# Altium schematic symbol library ST25RU3993_RF_MODULE.SCHLIB: 256 symbols (part 3 of 8)
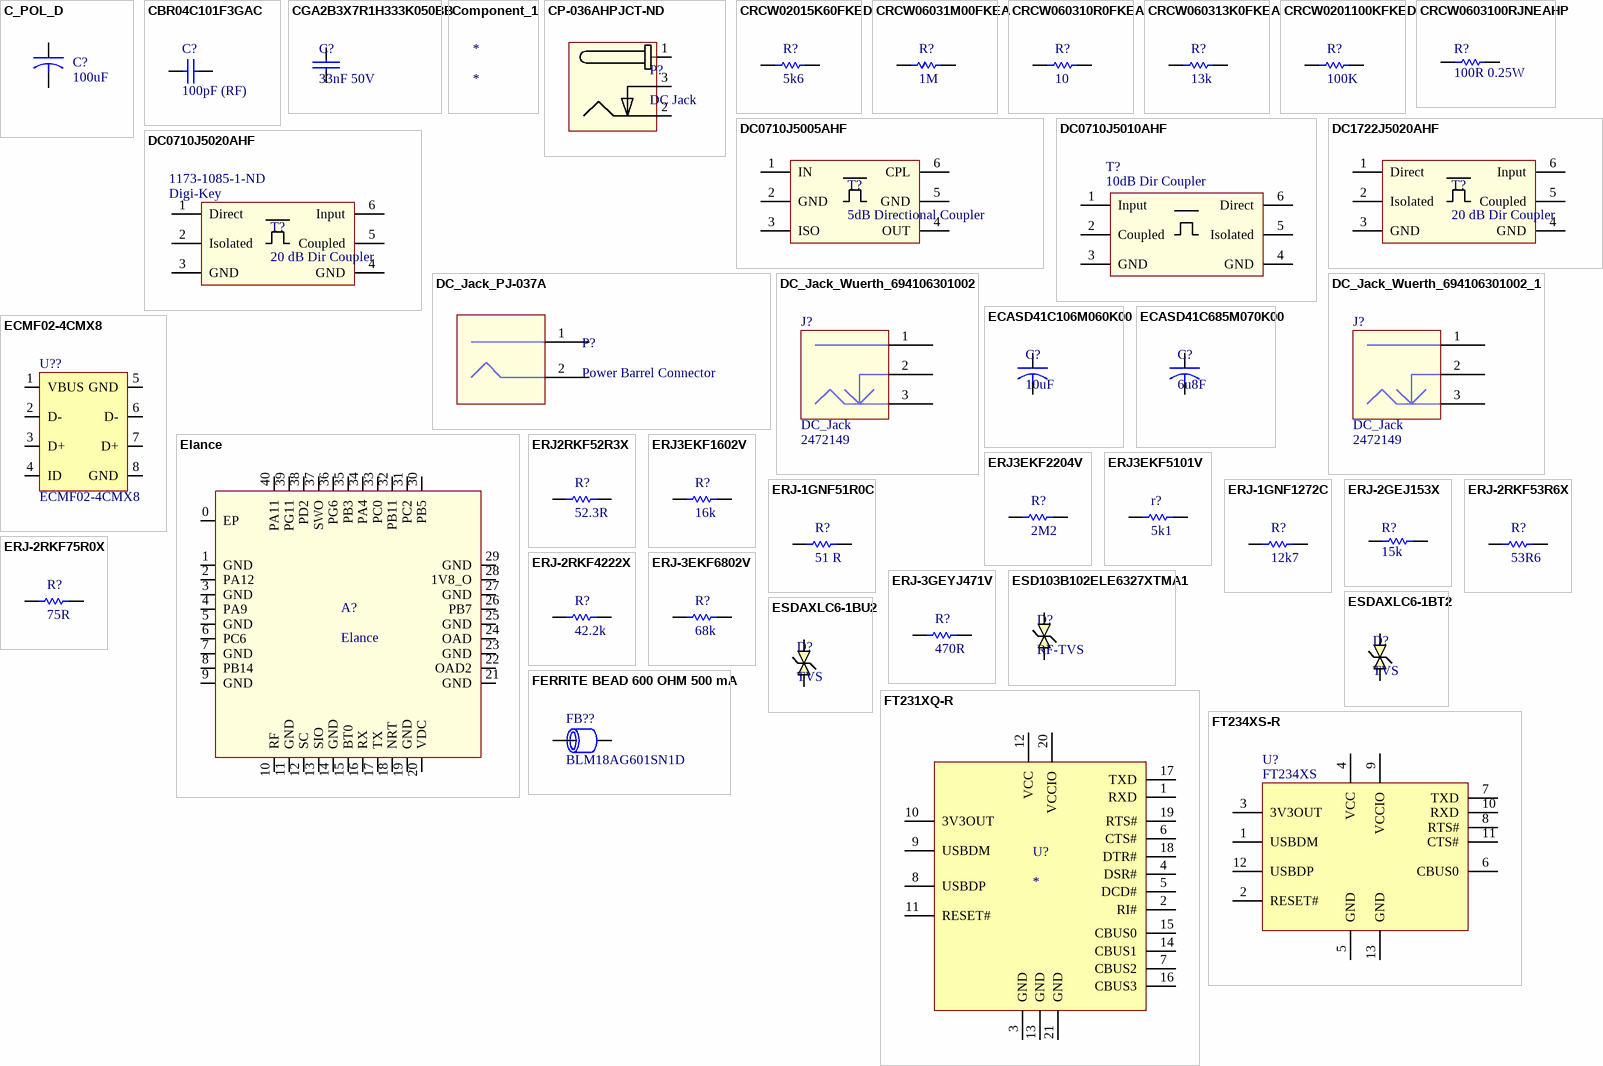
[diagram p8: symbols C_POL_D to FT234XS-R]

## ERJ-1GNF51R0C
designator R?, comment 51 R
RESISTOR, 0201, 0.05W, 1%, 51R; Manufacturer: Panasonic; Manufacturer Part Number: ERJ-1GNF51R0C; Power Rating: 50mW; Temperature Coefficient: 200ppm/°C; Voltage Rating: 25V; Supplier 1: Mouser; Supplier Part Number 1: 667-ERJ-1GNF51R0C; Stock: 5045; Pricing: 1=0.49, 10=0.045, 50=0.045, 100=0.018, 1000=0.013, 10000=0.007 (USD); Mount: Surface Mount; Case/Package: 0201; Number of Pins: 2; Weight: 6E-06oz; Case Code (Metric): 0603; Case Code (Imperial): 0201; Min Operating Temperature: -55°C; Max Operating Temperature: 125°C; Resistance: 51R; Tolerance: 1%; Packaging: Tape and Reel; Composition: Thick Film; Voltage Rating (DC): 25V; Package Quantity: 15000; Number of Terminations: 2; Max Power Dissipation: 50mW; Termination: SMD/SMT; Length: 0.6mm; Height: 0.01inch; Width: 0.012inch; Radiation Hardening: No; REACH SVHC: No SVHC; ComponentLink1URL: https://datasheet.ciiva.com/7891/aoa0000ce2-7891288.pdf; ComponentLink1Description: https://datasheet.ciiva.com/7891/aoa0000ce2-7891288.pdf; ComponentLink2URL: https://datasheet.ciiva.com/46375/1678782-46375932.pdf; ComponentLink2Description: https://datasheet.ciiva.com/46375/1678782-46375932.pdf; ComponentLink3URL: https://datasheet.ciiva.com/24130/aoa0000ce2-24130655.pdf; ComponentLink3Description: https://datasheet.ciiva.com/24130/aoa0000ce2-24130655.pdf; ComponentLink4URL: https://datasheet.ciiva.com/43467/1678782-43467023.pdf; ComponentLink4Description: https://datasheet.ciiva.com/43467/1678782-43467023.pdf
footprint R0201-RF
pins: 1, 2

## ERJ-1GNF1272C
designator R?, comment 12k7
RES SMD 12.7K OHM 1% 1/20W 0201; Manufacturer: Panasonic Electronic Components; Manufacturer Part Number: ERJ-1GNF1272C; Power (Watts): 0.05W, 1/20W; Temperature Coefficient: ±200ppm/°C; Supplier 1: Digi-Key; Supplier Part Number 1: P122706CT-ND; RoHS: RoHS Compliant; Category: Resistors; Stock: 29900; Pricing: 1=0.08, 10=0.045, 100=0.0183, 1000=0.00823, 2500=0.00714, 5000=0.0059 (EUR); Packaging: Cut Tape (CT); Part Status: Active; Tolerance: ±1%; Composition: Thick Film; Features: Automotive AEC-Q200; Operating Temperature: -55°C ~ 125°C; Package / Case: 0201 (0603 Metric); Supplier Device Package: 0201; Size / Dimension: 0.024" L x 0.012" W (0.60mm x 0.30mm); Height - Seated (Max): 0.010" (0.26mm); Failure Rate: -; ComponentLink1URL: https://industrial.panasonic.com/cdbs/www-data/pdf/RDA0000/AOA0000C304.pdf; ComponentLink1Description: https://industrial.panasonic.com/cdbs/www-data/pdf/RDA0000/AOA0000C304.pdf
footprint R0201-RF
pins: 1, 2

## ERJ-2GEJ153X
designator R?, comment 15k
RES SMD 15K OHM 5% 1/10W 0402; Manufacturer: Panasonic Electronic Components; Manufacturer Part Number: ERJ-2GEJ153X; Power (Watts): 0.1W, 1/10W; Temperature Coefficient: ±200ppm/°C; Exact Component Match: no; Supplier 1: Digi-Key; Supplier Part Number 1: P15KJCT-ND; RoHS: RoHS Compliant; Category: Resistors; Stock 1: 371088; Pricing 1: 1=0.09, 50=0.0096, 100=0.007, 250=0.00536, 500=0.00428, 1000=0.00315, 5000=0.00226 (EUR); Packaging: Cut Tape (CT); Part Status: Active; Resistance (Ohms): 15k; Tolerance: ±5%; Composition: Thick Film; Features: Automotive AEC-Q200; Operating Temperature: -55°C ~ 155°C; Package / Case: 0402 (1005 Metric); Supplier Device Package: 0402; Size / Dimension: 0.039" L x 0.020" W (1.00mm x 0.50mm); Height: 0.016" (0.40mm); Number of Terminations: 2; Failure Rate: -; ComponentLink1URL: http://industrial.panasonic.com/www-cgi/jvcr13pz.cgi?E+PZ+3+AOA0001+ERJ2GEJ153X+7+WW; ComponentLink1Description: http://industrial.panasonic.com/www-cgi/jvcr13pz.cgi?E+PZ+3+AOA0001+ERJ2GEJ153X+7+WW; Manufacturer 1: Panasonic Electronic Components; Manufacturer Part Number 1: ERJ-2GEJ153X
footprint R0402-RF
pins: 1, 2

## ERJ-2RKF53R6X
designator R?, comment 53R6
RES SMD 53.6 OHM 1% 1/10W 0402; Manufacturer: Panasonic Electronic Components; Manufacturer Part Number: ERJ-2RKF53R6X; Power (Watts): 0.1W, 1/10W; Temperature Coefficient: ±100ppm/°C; Supplier 1: Digi-Key; Supplier Part Number 1: P53.6LCT-ND; RoHS: RoHS Compliant; Category: Resistors; Stock: 122623; Pricing: 1=0.08, 10=0.024, 100=0.0096, 1000=0.00432, 2500=0.00375, 5000=0.0031 (EUR); Packaging: Cut Tape (CT); Part Status: Active; Tolerance: ±1%; Composition: Thick Film; Features: Automotive AEC-Q200; Operating Temperature: -55°C ~ 155°C; Package / Case: 0402 (1005 Metric); Supplier Device Package: 0402; Size / Dimension: 0.039" L x 0.020" W (1.00mm x 0.50mm); Height - Seated (Max): 0.016" (0.40mm); Failure Rate: -; ComponentLink1URL: https://industrial.panasonic.com/cdbs/www-data/pdf/RDA0000/AOA0000C304.pdf; ComponentLink1Description: https://industrial.panasonic.com/cdbs/www-data/pdf/RDA0000/AOA0000C304.pdf; Supplier 2: Digi-Key; Supplier Part Number 2: YAG3233CT-ND; ComponentLink2URL: http://www.yageo.com/documents/recent/PYu-RC_Group_51_RoHS_L_7.pdf; ComponentLink2Description: http://www.yageo.com/documents/recent/PYu-RC_Group_51_RoHS_L_7.pdf
footprint R0402-RF
pins: 1, 2

## ERJ-2RKF75R0X
designator R?, comment 75R
Res Thick Film 0402 75 Ohm 1% 0.1W(1/10W) ±100ppm/C Molded SMD Automotive Punched T/R; Manufacturer: Panasonic; Manufacturer Part Number: ERJ-2RKF75R0X; Voltage Rating: 50V; Power Rating: 100mW; Temperature Coefficient: 100ppm/°C; Supplier 1: Digi-Key; Supplier Part Number 1: P75.0LDKR-ND; Stock: 2530348; Pricing: 1=0.1, 10=0.045, 100=0.0184, 1000=0.00826, 2500=0.00717, 5000=0.00593 (USD); Mount: Surface Mount; Case/Package: 0402; Case Code (Metric): 1005; Case Code (Imperial): 0402; Contact Plating: Tin; Min Operating Temperature: -55°C; Max Operating Temperature: 155°C; Tolerance: 1%; Resistance: 75R; Composition: Thick Film; Packaging: Tape and Reel; Voltage Rating (DC): 50V; Termination: SMD/SMT; Package Quantity: 1; Number of Terminations: 2; Military Standard: Not; Max Power Dissipation: 100mW; Features: Automotive AEC-Q200; Length: 1mm; Height: 0.35mm; Width: 0.02inch; Depth: 0.5mm; Radiation Hardening: No; REACH SVHC: No SVHC; Lead Free: Lead Free; ComponentLink1URL: https://industrial.panasonic.com/cdbs/www-data/pdf/RDA0000/DMA0000COL11.pdf; ComponentLink1Description: https://industrial.panasonic.com/cdbs/www-data/pdf/RDA0000/DMA0000COL11.pdf; ComponentLink2URL: http://www.farnell.com/datasheets/1911175.pdf; ComponentLink2Description: http://www.farnell.com/datasheets/1911175.pdf; ComponentLink3URL: http://www.alliedelec.com/m/d/623f45ff1957d936ff56d46fd1c28cac.pdf; ComponentLink3Description: http://www.alliedelec.com/m/d/623f45ff1957d936ff56d46fd1c28cac.pdf; ComponentLink4URL: http://www.farnell.com/datasheets/426256.pdf; ComponentLink4Description: http://www.farnell.com/datasheets/426256.pdf; ComponentLink5URL: http://industrial.panasonic.com/www-data/pdf/AOA0000/AOA0000CE2.pdf; ComponentLink5Description: http://industrial.panasonic.com/www-data/pdf/AOA0000/AOA0000CE2.pdf; ComponentLink6URL: http://www.mouser.com/ds/2/315/AOA0000CE2-37512.pdf; ComponentLink6Description: http://www.mouser.com/ds/2/315/AOA0000CE2-37512.pdf
footprint R0402-RF
pins: 1, 2

## ERJ-2RKF4222X
designator R?, comment 42.2k
RES SMD 42.2K OHM 1% 1/10W 0402; Manufacturer: Panasonic Electronic Components; Manufacturer Part Number: ERJ-2RKF4222X; Power (Watts): 0.1W, 1/10W; Temperature Coefficient: ±100ppm/°C; Supplier 1: Digi-Key; Supplier Part Number 1: P42.2KLCT-ND; RoHS: RoHS Compliant; Category: Resistors; Stock: 287959; Pricing: 1=0.09, 10=0.024, 100=0.0097, 1000=0.00438, 2500=0.0038, 5000=0.00314 (EUR); Packaging: Cut Tape (CT); Part Status: Active; Tolerance: ±1%; Composition: Thick Film; Features: Automotive AEC-Q200; Operating Temperature: -55°C ~ 155°C; Package / Case: 0402 (1005 Metric); Supplier Device Package: 0402; Size / Dimension: 0.039" L x 0.020" W (1.00mm x 0.50mm); Height - Seated (Max): 0.016" (0.40mm); Failure Rate: -; ComponentLink1URL: https://industrial.panasonic.com/cdbs/www-data/pdf/RDA0000/AOA0000C304.pdf; ComponentLink1Description: https://industrial.panasonic.com/cdbs/www-data/pdf/RDA0000/AOA0000C304.pdf
footprint R0402-RF
pins: 1, 2

## ERJ-3EKF6802V
designator R?, comment 68k
RESISTOR, 0603, 0.1W, 1%, 68K; Manufacturer: Panasonic; Manufacturer Part Number: ERJ-3EKF6802V; Resistance: 68kR; Temperature Coefficient: 100ppm/°C; Power Rating: 100mW; Voltage Rating: 75V; Supplier 1: Digi-Key; Supplier Part Number 1: P68.0KHCT-ND; RoHS: Yes; Stock: 679802; Pricing: 1 = 0.10000, 10 = 0.06500, 100 = 0.02640, 1000 = 0.01186, 2500 = 0.01029 (USD); Mount: Surface Mount; Case/Package: 0603; Number of Pins: 2; Case Code (Metric): 1608; Case Code (Imperial): 0603; Contact Plating: Tin; Min Operating Temperature: -55°C; Max Operating Temperature: 155°C; Tolerance: 1%; Packaging: Tape and Reel; Composition: Thick Film; Voltage Rating (DC): 75V; Termination: SMD/SMT; Package Quantity: 1; Number of Terminations: 2; Max Power Dissipation: 100mW; Features: Automotive AEC-Q200; Military Standard: Not; Length: 1.6mm; Height: 0.022inch; Width: 0.031inch; Depth: 0.8mm; Radiation Hardening: No; REACH SVHC: Unknown; ComponentLink1URL: http://industrial.panasonic.com/www-data/pdf/AOA0000/AOA0000CE2.pdf; ComponentLink1Description: http://industrial.panasonic.com/www-data/pdf/AOA0000/AOA0000CE2.pdf; ComponentLink2URL: http://www.farnell.com/datasheets/426256.pdf; ComponentLink2Description: http://www.farnell.com/datasheets/426256.pdf; ComponentLink3URL: http://www.mouser.com/ds/2/315/AOA0000CE2-37512.pdf; ComponentLink3Description: http://www.mouser.com/ds/2/315/AOA0000CE2-37512.pdf; ComponentLink4URL: http://www.farnell.com/datasheets/1678782.pdf; ComponentLink4Description: http://www.farnell.com/datasheets/1678782.pdf
footprint R0603-ss
pins: 1, 2

## ERJ-3GEYJ471V
designator R?, comment 470R
Res Thick Film 0603 470 Ohm 5% 1/10W +/-200ppm/ßC Molded SMD Punched Carrier T/R; Manufacturer: Panasonic; Manufacturer Part Number: ERJ-3GEYJ471V; Temperature Coefficient: 200ppm/°C; Voltage Rating: 75V; Power Rating: 100mW; Voltage Rating (DC): 50V; Supplier 1: Farnell; Supplier Part Number 1: 2059592; Stock: 24530; Pricing: 10 = 0.03570, 100 = 0.02000, 500 = 0.01560, 1000 = 0.01100 (CHF); Mount: Surface Mount; Case/Package: 0603; Weight: 7.1E-05oz; Case Code (Metric): 1608; Case Code (Imperial): 0603; Contact Plating: Tin; Min Operating Temperature: -55°C; Max Operating Temperature: 155°C; Resistance: 470R; Tolerance: 5%; Packaging: Tape and Reel; Package Quantity: 1; Termination: SMD/SMT; Composition: Thick Film; Number of Terminations: 2; Military Standard: Not; Max Power Dissipation: 100mW; Features: Automotive AEC-Q200; Length: 1.6mm; Height: 0.45mm; Width: 0.031inch; Depth: 0.8mm; Radiation Hardening: No; REACH SVHC: No SVHC; Lead Free: Lead Free; ComponentLink1URL: http://www.farnell.com/datasheets/1678796.pdf; ComponentLink1Description: http://www.farnell.com/datasheets/1678796.pdf; ComponentLink2URL: http://industrial.panasonic.com/www-data/pdf/AOA0000/AOA0000CE1.pdf; ComponentLink2Description: http://industrial.panasonic.com/www-data/pdf/AOA0000/AOA0000CE1.pdf; ComponentLink3URL: https://www.alliedelec.com/m/d/51cd0790071e1666bdb9d00c57fcf960.pdf; ComponentLink3Description: https://www.alliedelec.com/m/d/51cd0790071e1666bdb9d00c57fcf960.pdf; ComponentLink4URL: https://www.verical.com/server-webapp/html/getDatasheet?partID=33087; ComponentLink4Description: https://www.verical.com/server-webapp/html/getDatasheet?partID=33087; ComponentLink5URL: http://www.farnell.com/datasheets/2059623.pdf; ComponentLink5Description: http://www.farnell.com/datasheets/2059623.pdf; ComponentLink6URL: http://datasheet.octopart.com/ERJ-3GEYJ471V-Panasonic-datasheet-13266872.pdf; ComponentLink6Description: http://datasheet.octopart.com/ERJ-3GEYJ471V-Panasonic-datasheet-13266872.pdf; ComponentLink7URL: http://datasheet.octopart.com/ERJ-3GEYJ471V-Panasonic-datasheet-5314550.pdf; ComponentLink7Description: http://datasheet.octopart.com/ERJ-3GEYJ471V-Panasonic-datasheet-5314550.pdf; ComponentLink8URL: http://datasheet.octopart.com/ERJ-3GEYJ471V-Panasonic-datasheet-61114972.pdf; ComponentLink8Description: http://datasheet.octopart.com/ERJ-3GEYJ471V-Panasonic-datasheet-61114972.pdf; ComponentLink9URL: http://datasheet.octopart.com/ERJ-3GEYJ471V-Panasonic-datasheet-7538305.pdf; ComponentLink9Description: http://datasheet.octopart.com/ERJ-3GEYJ471V-Panasonic-datasheet-7538305.pdf; ComponentLink10URL: http://datasheet.octopart.com/ERJ-3GEYJ471V-Panasonic-datasheet-37173568.pdf; ComponentLink10Description: http://datasheet.octopart.com/ERJ-3GEYJ471V-Panasonic-datasheet-37173568.pdf; ComponentLink11URL: http://datasheet.octopart.com/ERJ-3GEYJ471V-Panasonic-datasheet-78375410.pdf; ComponentLink11Description: http://datasheet.octopart.com/ERJ-3GEYJ471V-Panasonic-datasheet-78375410.pdf; ComponentLink12URL: http://datasheet.octopart.com/ERJ-3GEYJ471V-Panasonic-datasheet-118655.pdf; ComponentLink12Description: http://datasheet.octopart.com/ERJ-3GEYJ471V-Panasonic-datasheet-118655.pdf; ComponentLink13URL: http://datasheet.octopart.com/ERJ-3GEYJ471V-Panasonic-datasheet-5313456.pdf; ComponentLink13Description: http://datasheet.octopart.com/ERJ-3GEYJ471V-Panasonic-datasheet-5313456.pdf; ComponentLink14URL: http://datasheet.octopart.com/ERJ-3GEYJ471V-Panasonic-datasheet-10554283.pdf; ComponentLink14Description: http://datasheet.octopart.com/ERJ-3GEYJ471V-Panasonic-datasheet-10554283.pdf; ComponentLink15URL: http://datasheet.octopart.com/ERJ-3GEYJ471V-Panasonic-datasheet-11480398.pdf; ComponentLink15Description: http://datasheet.octopart.com/ERJ-3GEYJ471V-Panasonic-datasheet-11480398.pdf; ComponentLink16URL: http://datasheet.octopart.com/ERJ-3GEYJ471V-Panasonic---ECG-datasheet-15994758.pdf; ComponentLink16Description: http://datasheet.octopart.com/ERJ-3GEYJ471V-Panasonic---ECG-datasheet-15994758.pdf; ComponentLink17URL: http://datasheet.octopart.com/ERJ3GEYJ471V-Panasonic-datasheet-27908757.pdf; ComponentLink17Description: http://datasheet.octopart.com/ERJ3GEYJ471V-Panasonic-datasheet-27908757.pdf
footprint R0603-ss
pins: 1, 2

## ESD103B102ELE6327XTMA1
designator D?, comment RF-TVS
TVS DIODE 15VWM 48VC TSLP2-2; Manufacturer: Infineon; Manufacturer Part Number: ESD103B102ELE6327XTMA1; Direction: Bidirectional; Capacitance: 0.2pF; Number of Bidirectional Channels: 1; Reverse Standoff Voltage: 15V; Min Breakdown Voltage: 21V; Clamping Voltage: 48V; Power Line Protection: No; Element Configuration: Single; Peak Pulse Current: 16A; Supplier 1: Mouser; Supplier Part Number 1: 726-ESD103-B1-02ELE; Stock: 3022; Pricing: 1=0.44, 10=0.306, 50=0.306, 100=0.141, 1000=0.108, 10000=0.084 (USD); Mount: Surface Mount; Number of Pins: 2; Min Operating Temperature: -55°C; Max Operating Temperature: 125°C; Packaging: Tape and Reel; Working Voltage: 15V; Lead Free: Lead Free; Halogen Free: Halogen Free; ComponentLink1URL: https://datasheet.ciiva.com/29588/infineon-esd103-b1-ds-v01-02-en-29588451.pdf; ComponentLink1Description: https://datasheet.ciiva.com/29588/infineon-esd103-b1-ds-v01-02-en-29588451.pdf; ComponentLink2URL: https://datasheet.ciiva.com/29588/infineon-ds-v01-03-en-29588453.pdf; ComponentLink2Description: https://datasheet.ciiva.com/29588/infineon-ds-v01-03-en-29588453.pdf
footprint TSLP-2-20
pins: 1, 2

## ESDAXLC6-1BT2
designator D?, comment TVS
TVS DIODE 3VWM 17VC SOD882T; Manufacturer: STMicroelectronics; Manufacturer Part Number: ESDAXLC6-1BT2; Type: Zener; Voltage - Reverse Standoff (Typ): 3V; Voltage - Breakdown (Min): 6V; Voltage - Clamping (Max) @ Ipp: 17V; Current - Peak Pulse (10/1000µs): 1A (8/20µs); Power - Peak Pulse: 40W; Power Line Protection: No; Capacitance @ Frequency: 0.4pF @ 200MHz ~ 3GHz; Supplier 1: Digi-Key; Supplier Part Number 1: 497-13413-1-ND; RoHS: RoHS Compliant; Category: Circuit Protection; Stock: 42632; Pricing: 1=0.33, 10=0.252, 100=0.1569, 500=0.1074, 1000=0.08262 (EUR); Packaging: Cut Tape (CT); Part Status: Active; Applications: General Purpose; Operating Temperature: -40°C ~ 150°C (TJ); Mounting Type: Surface Mount; Package / Case: SOD-882; Supplier Device Package: SOD-882T; ComponentLink1URL: http://www.st.com/content/ccc/resource/technical/document/datasheet/e8/d2/ed/fd/e8/00/4a/29/DM00065056.pdf/files/DM00065056.pdf/jcr:content/translations/en.DM00065056.pdf; ComponentLink1Description: http://www.st.com/content/ccc/resource/technical/document/datasheet/e8/d2/ed/fd/e8/00/4a/29/DM00065056.pdf/files/DM00065056.pdf/jcr:content/translations/en.DM00065056.pdf
footprint SOD882 (ESDAXLC6-1BT2)
pins: 1, 2

## ESDAXLC6-1BU2
designator D?, comment TVS
TVS DIODE 3VWM 17VC ST0201; Manufacturer: STMicroelectronics; Manufacturer Part Number: ESDAXLC6-1BU2; Type: Zener; Voltage - Reverse Standoff (Typ): 3V; Voltage - Breakdown (Min): 6V; Voltage - Clamping (Max) @ Ipp: 17V; Current - Peak Pulse (10/1000µs): 1A (8/20µs); Power - Peak Pulse: 40W; Power Line Protection: No; Capacitance @ Frequency: 0.4pF @ 200MHz ~ 3GHz; Tolerance: ±1%; Power (Watts): 0.1W, 1/10W; Temperature Coefficient: ±100ppm/°C; Supplier 1: Digi-Key; Supplier Part Number 1: 497-13414-1-ND; RoHS: RoHS Compliant; Category: Circuit Protection; Stock: 23750; Pricing: 1=0.4, 10=0.294, 100=0.1664, 500=0.11016, 1000=0.08446 (EUR); Packaging: Cut Tape (CT); Part Status: Active; Applications: General Purpose; Operating Temperature: -40°C ~ 150°C (TJ); Mounting Type: Surface Mount; Package / Case: 0201 (0603 Metric); Supplier Device Package: ST0201; ComponentLink1URL: http://www.st.com/content/ccc/resource/technical/document/datasheet/a9/ba/2f/b9/a6/10/44/55/DM00065800.pdf/files/DM00065800.pdf/jcr:content/translations/en.DM00065800.pdf; ComponentLink1Description: http://www.st.com/content/ccc/resource/technical/document/datasheet/a9/ba/2f/b9/a6/10/44/55/DM00065800.pdf/files/DM00065800.pdf/jcr:content/translations/en.DM00065800.pdf; Supplier 2: Digi-Key; Supplier Part Number 2: P53.6LCT-ND; Composition: Thick Film; Features: Automotive AEC-Q200; Size / Dimension: 0.039" L x 0.020" W (1.00mm x 0.50mm); Height - Seated (Max): 0.016" (0.40mm); Failure Rate: -; ComponentLink2URL: https://industrial.panasonic.com/cdbs/www-data/pdf/RDA0000/AOA0000C304.pdf; ComponentLink2Description: https://industrial.panasonic.com/cdbs/www-data/pdf/RDA0000/AOA0000C304.pdf
footprint DFN35P60X33-2N (DFN, 2-Leads, Body 0,30x0,60mm, Pitch 0,35mm, IPC Medium Density)
pins: 1, 2

## FERRITE BEAD 600 OHM 500 mA
designator FB??, comment BLM18AG601SN1D
FERRITE BEAD, 600 OHM, 500 mA, 0603, 1LN; Manufacturer: Murata Electronics North America; Number of Lines: 1; Impedance @ Frequency: 600 Ohm @ 100MHz; Current Rating (Max): 500mA; DC Resistance (DCR) (Max): 380 mOhm; Supplier 1: Digi-Key; Manufacturer Part Number: BLM18AG601SN1D; RoHS: RoHS Compliant; Category: Filters; Stock: 927990; Pricing 1: 1=0.09, 10=0.075, 25=0.068, 50=0.0612, 100=0.0449, 250=0.03268, 500=0.02992, 1000=0.02585 (EUR); Packaging: Cut Tape (CT); Part Status: Active; Filter Type: -; Ratings: -; Operating Temperature: -55°C ~ 125°C; Package / Case: 0603 (1608 Metric); Mounting Type: Surface Mount; Height (Max): 0.037" (0.95mm); Size / Dimension: 0.063" L x 0.031" W (1.60mm x 0.80mm); ComponentLink1URL: http://www.murata.com/en-us/products/productdata/8796738650142/ENFA0003.pdf; ComponentLink1Description: http://www.murata.com/en-us/products/productdata/8796738650142/ENFA0003.pdf; Supplier Part Number 1: 490-1014-1-ND
footprint FB0603-RF
pins: 1, 2

## FT231XQ-R
designator U?
IC USB SERIAL FULL UART 20QFN; Manufacturer: FTDI, Future Technology Devices International Ltd; Manufacturer Part Number: FT231XQ-R; Function: Bridge, USB to UART; Standards: USB 2.0; Voltage - Supply: 3.3 V ~ 5 V; Current - Supply: 8mA; Supplier 1: Digi-Key; RoHS: RoHS Compliant; Category: Integrated Circuits (ICs); Stock: 23107; Pricing 1: 1=1.86, 25=1.7992, 100=1.7376, 250=1.56212, 500=1.40416, 1000=1.34273, 2500=1.29081 (EUR); Packaging: Cut Tape (CT); Part Status: Active; Protocol: USB; Interface: UART; Operating Temperature: -40°C ~ 85°C; Package / Case: 20-WFQFN Exposed Pad; Supplier Device Package: 20-QFN (4x4); ComponentLink1URL: http://www.ftdichip.com/Support/Documents/DataSheets/ICs/DS_FT231X.pdf; ComponentLink1Description: http://www.ftdichip.com/Support/Documents/DataSheets/ICs/DS_FT231X.pdf; Supplier Part Number 1: 768-1128-1-ND
footprint FT231XQ (USB TO FULL HANDSHAKE UART IC)
pins: 1 RXD, 2 RI#, 3 GND, 4 DSR#, 5 DCD#, 6 CTS#, 7 CBUS2, 8 USBDP, 9 USBDM, 10 3V3OUT, 11 RESET#, 12 VCC, 13 GND, 14 CBUS1, 15 CBUS0, 16 CBUS3, 17 TXD, 18 DTR#, 19 RTS#, 20 VCCIO, 21 GND

## FT234XS-R
designator U?, comment FT234XS
FT234XD USB TO BASIC UART IC; Manufacturer: FTDI, Future Technology Devices International Ltd; Manufacturer Part Number: FT234XD-R; Function: Bridge, USB to UART; Standards: USB 2.0; Voltage - Supply: 2.97 V ~ 5.5 V; Current - Supply: 8mA; Supplier 1: Digi-Key; RoHS: RoHS Compliant; Category: Integrated Circuits (ICs); Stock: 46244; Pricing 1: 1=2.17, 25=1.8596, 100=1.7936, 250=1.61424, 500=1.4632, 1000=1.44433 (EUR); Packaging: Digi-Reel®; Part Status: Active; Protocol: USB; Interface: UART; Operating Temperature: -40°C ~ 85°C; Package / Case: 12-VFDFN Exposed Pad; Supplier Device Package: 12-DFN (3x3); ComponentLink1URL: http://www.ftdichip.com/Support/Documents/DataSheets/ICs/DS_FT234XD.pdf; ComponentLink1Description: http://www.ftdichip.com/Support/Documents/DataSheets/ICs/DS_FT234XD.pdf; Supplier Part Number 1: 768-1178-6-ND
footprint FT234XD (USB TO BASIC UART IC)
pins: 1 USBDM, 2 RESET#, 3 3V3OUT, 4 VCC, 5 GND, 6 CBUS0, 7 TXD, 8 RTS#, 9 VCCIO, 10 RXD, 11 CTS#, 12 USBDP, 13 GND

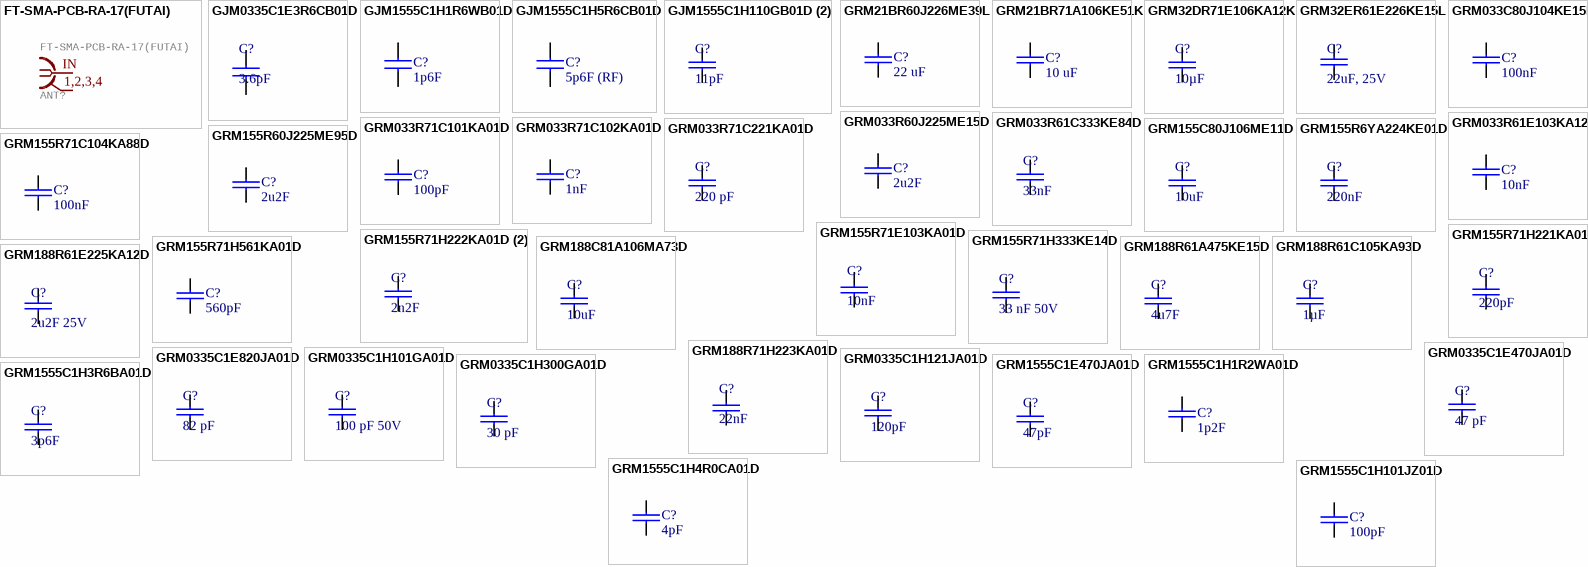
[diagram p2: symbols FT-SMA-PCB-RA-17(FUTAI) to GRM1555C1H101JZ01D]

## FT-SMA-PCB-RA-17(FUTAI)
designator ANT?
Manufacturer Part Number: FT-SMA-PCB-RA-26; Manufacturer: Futai HK CO
footprint FT-SMA-PCB-RA-17
pins: 1,2,3,4 P$2, IN P$1

## GJM0335C1E3R6CB01D
designator C?, comment 3.6pF
CAP CER 3.6PF 25V NP0 0201; Manufacturer: Murata; Manufacturer Part Number: GJM0335C1E3R6CB01D; Dielectric: C0G; Supplier 1: Digi-Key; Supplier Part Number 1: 490-3066-6-ND; Stock: 25165; Pricing: 1=0.1, 10=0.047, 100=0.0208, 500=0.01482, 1000=0.01165, 2500=0.01059, 5000=0.00974 (USD); Mount: Surface Mount; Case/Package: 0201; Case Code (Metric): 0603; Case Code (Imperial): 0201; Min Operating Temperature: -55°C; Max Operating Temperature: 125°C; Capacitance: 3.6pF; Packaging: Tape and Reel; Package Quantity: 15000; Voltage Rating: 25V; Voltage Rating (DC): 25V; Termination: SMD/SMT; Length: 0.6mm; Height: 0.3mm; Width: 0.012inch; Thickness: 0.013inch; Depth: 0.3mm; Radiation Hardening: No; Lead Free: Lead Free; ComponentLink1URL: https://datasheet.ciiva.com/11614/product-11614018.pdf; ComponentLink1Description: https://datasheet.ciiva.com/11614/product-11614018.pdf; ComponentLink2URL: https://datasheet.ciiva.com/133/partnumbering-e-01-133459.pdf; ComponentLink2Description: https://datasheet.ciiva.com/133/partnumbering-e-01-133459.pdf; ComponentLink3URL: https://datasheet.ciiva.com/133/partnumbering-e-01-133460.pdf; ComponentLink3Description: https://datasheet.ciiva.com/133/partnumbering-e-01-133460.pdf; ComponentLink4URL: https://datasheet.ciiva.com/133/partnumbering-e-01-133461.pdf; ComponentLink4Description: https://datasheet.ciiva.com/133/partnumbering-e-01-133461.pdf; ComponentLink5URL: https://datasheet.ciiva.com/16497/l0005e-16497209.pdf; ComponentLink5Description: https://datasheet.ciiva.com/16497/l0005e-16497209.pdf
footprint C0201-RF
pins: 1, 2

## GJM1555C1H1R6WB01D
designator C?, comment 1p6F
CAP CER 1.6PF 50V NP0 0402; Manufacturer: Murata Electronics North America; Manufacturer Part Number: GJM1555C1H1R6WB01D; Tolerance: ±0.05pF; Temperature Coefficient: C0G, NP0; Supplier 1: Digi-Key; Supplier Part Number 1: 490-11200-2-ND; RoHS: RoHS Compliant; Category: Capacitors; Stock 1: 30000; Pricing 1: 10000=0.04535, 20000=0.04302, 30000=0.04146, 50000=0.03887, 100000=0.03434 (EUR); Packaging: Tape & Reel (TR); Part Status: Active; Capacitance: 1.6pF; Voltage - Rated: 50V; Operating Temperature: -55°C ~ 125°C; Features: High Q, Low Loss; Ratings: -; Applications: RF, Microwave, High Frequency; Mounting Type: Surface Mount, MLCC; Package / Case: 0402 (1005 Metric); Size / Dimension: 0.039" L x 0.020" W (1.00mm x 0.50mm); Height - Seated (Max): -; Thickness (Max): 0.022" (0.55mm); Lead Spacing: -; Lead Style: -; ComponentLink1URL: http://www.murata.com/~/media/webrenewal/support/library/catalog/products/capacitor/mlcc/c02e.pdf; ComponentLink1Description: http://www.murata.com/~/media/webrenewal/support/library/catalog/products/capacitor/mlcc/c02e.pdf
footprint C0402-RF
pins: 1, 2

## GJM1555C1H5R6CB01D
designator C?, comment 5p6F (RF)
CAP CER 5.6PF 50V NP0 0402; Manufacturer 1: Murata Electronics North America; Manufacturer Part Number 1: GJM1555C1H5R6CB01D; Tolerance: ±0.25pF; Temperature Coefficient: C0G, NP0; Frequency Min: 380; Frequency Max: 960; Gain: 32; RF IC Case Style: QFN; No. of Pins: 16; Supply Voltage Min: 3; Supply Voltage Max: 5; Frequency Range: 380MHz to 960; RF Type: General Purpose; Supply Current: 320; Supply Voltage Range: 3V to 5V<!--FANDB--><div class="features-and-benefits-container"><div class="features-and-benefits-description"><span class="features-benefits-value">The RFPA0133 is a 3 to 5V high efficiency programmable gain Power Amplifier designed to offer saturated efficiency greater than 60% over a range of frequencies from 380 to 960MHz. The device is manufactured on an advanced Gallium Arsenide Heterojunction Bipolar Transistor (HBT) process.</span></div><div class="features-and-benefits-list"><ul class="features-and-benefits-list-list"><li class="features-and-benefits-list-item">0.5W CW Output power at 3.6V</li><li class="features-and-benefits-list-item">1W CW Output power at 5V</li><li class="features-and-benefits-list-item">32dB Small signal gain at 900; Exact Component Match: yes; Supplier 1: Digi-Key; Supplier Part Number 1: 490-3103-1-ND; RoHS: RoHS Compliant; Category: Capacitors; Stock 1: 38361; Pricing 1: 1=0.09, 10=0.054, 50=0.0294, 100=0.0248, 250=0.02028, 500=0.01734, 1000=0.0135, 5000=0.01125 (EUR); Packaging: Cut Tape (CT); Part Status: Active; Capacitance: 5.6pF; Voltage - Rated: 50V; Operating Temperature: -55°C ~ 125°C; Features: High Q, Low Loss; Ratings: -; Applications: RF, Microwave, High Frequency; Failure Rate: *; Mounting Type: Surface Mount, MLCC; Package / Case: 0402 (1005 Metric); Size / Dimension: 0.039" L x 0.020" W (1.00mm x 0.50mm); Height - Seated (Max): -; Thickness (Max): 0.022" (0.55mm); Lead Spacing: -; Lead Style: -; ComponentLink1URL: http://www.murata.com/~/media/webrenewal/support/library/catalog/products/capacitor/mlcc/c02e.pdf; ComponentLink1Description: http://www.murata.com/~/media/webrenewal/support/library/catalog/products/capacitor/mlcc/c02e.pdf; Supplier 2: Farnell; Supplier Part Number 2: 2066376; Manufacturer 2: RFMD; Manufacturer Part Number 2: RFPA0133; Stock 2: 0; Pricing 2: 1=26.04, 10=22.77, 100=18.87, 200=16.98, 500=15.29, 1000=12.85, 2000=11.58 (GBP); Noise Figure Typ: -; Operating Temperature Min: -40; Operating Temperature Max: 85; Product Range: -; Automotive Qualification Standard: -; MSL: MSL 3 - 168 hours; Operating Temperature Range: -40°C to +85; ComponentLink2URL: http://www.farnell.com/datasheets/1848789.pdf; ComponentLink2Description: http://www.farnell.com/datasheets/1848789.pdf; ComponentLink3URL: http://www.farnell.com/datasheets/2042598.pdf; ComponentLink3Description: http://www.farnell.com/datasheets/2042598.pdf; Manufacturer: Murata Electronics North America; Manufacturer Part Number: GJM1555C1H5R6CB01D
footprint C0402-RF
pins: 1, 2

## GJM1555C1H110GB01D (2)
designator C?, comment 11pF
CAP CER 11PF 50V C0G/NP0 0402; Manufacturer: Murata Electronics North America; Manufacturer Part Number: GJM1555C1H110GB01D; Tolerance: ±2%; Temperature Coefficient: C0G, NP0; Supplier 1: Digi-Key; Supplier Part Number 1: 490-6072-1-ND; RoHS: RoHS Compliant; Category: Capacitors; Stock: 28598; Pricing: 1=0.16, 10=0.11, 100=0.0559, 500=0.03826, 1000=0.03384, 2500=0.03237, 5000=0.02943 (EUR); Packaging: Cut Tape (CT); Part Status: Active; Voltage - Rated: 50V; Operating Temperature: -55°C ~ 125°C; Features: High Q, Low Loss; Ratings: -; Applications: RF, Microwave, High Frequency; Mounting Type: Surface Mount, MLCC; Package / Case: 0402 (1005 Metric); Size / Dimension: 0.039" L x 0.020" W (1.00mm x 0.50mm); Height - Seated (Max): -; Thickness (Max): 0.022" (0.55mm); Lead Spacing: -; Lead Style: -; ComponentLink1URL: http://search.murata.co.jp/Ceramy/image/img/A01X/G101/ENG/GJM1555C1H110GB01-01.pdf; ComponentLink1Description: http://search.murata.co.jp/Ceramy/image/img/A01X/G101/ENG/GJM1555C1H110GB01-01.pdf
footprint C0402-RF
pins: 1, 2

## GRM21BR60J226ME39L
designator C?, comment 22 uF
CAP CER 22UF 6.3V X5R 0805; Manufacturer 1: Murata Electronics North America; Manufacturer Part Number 1: GRM21BR60J226ME39L; Capacitance: 22µF; Tolerance: ±20%; Exact Component Match: no; Supplier 1: Digi-Key; Supplier Part Number 1: 490-1719-2-ND; RoHS: RoHS Compliant; Category: Capacitors; Stock 1: 1083000; Pricing 1: 3000=0.0766, 6000=0.06964, 9000=0.06616, 15000=0.06268, 30000=0.0592, 75000=0.05571, 150000=0.04701 (EUR); Packaging: Tape & Reel (TR); Part Status: Active; Voltage - Rated: 6.3V; Temperature Coefficient: X5R; Operating Temperature: -55°C ~ 85°C; Features: -; Ratings: -; Applications: General Purpose; Failure Rate: *; Mounting Type: Surface Mount, MLCC; Package / Case: 0805 (2012 Metric); Size / Dimension: 0.079" L x 0.049" W (2.00mm x 1.25mm); Height - Seated (Max): -; Thickness (Max): 0.053" (1.35mm); Lead Spacing: -; Lead Style: -; ComponentLink1URL: http://www.murata.com/~/media/webrenewal/support/library/catalog/products/capacitor/mlcc/c02e.pdf; ComponentLink1Description: http://www.murata.com/~/media/webrenewal/support/library/catalog/products/capacitor/mlcc/c02e.pdf; Manufacturer: Murata Electronics North America; Manufacturer Part Number: GRM21BR60J226ME39L
footprint C0805-ss
pins: 1, 2

## GRM21BR71A106KE51K
designator C?, comment 10 uF
CAP CER 10UF 10V X7R 0805; Manufacturer 1: Murata Electronics North America; Manufacturer Part Number 1: GRM21BR71A106KE51K; Capacitance: 10µF; Tolerance: ±10%; Exact Component Match: no; Material: Ceramic; Voltage Rating: 50V; Supplier 1: Digi-Key; Supplier Part Number 1: 490-6477-6-ND; RoHS: RoHS Compliant; Category: Capacitors; Stock 1: 5973; Pricing 1: 1=0.46, 10=0.383, 50=0.2156, 100=0.1915, 250=0.1436, 500=0.12688, 1000=0.11249, 5000=0.09334 (EUR); Packaging: Digi-Reel®; Part Status: Active; Voltage - Rated: 10V; Temperature Coefficient: X7R; Operating Temperature: -55°C ~ 125°C; Features: -; Ratings: -; Applications: General Purpose; Failure Rate: *; Mounting Type: Surface Mount, MLCC; Package / Case: 0805 (2012 Metric); Size / Dimension: 0.079" L x 0.049" W (2.00mm x 1.25mm); Height - Seated (Max): -; Thickness (Max): 0.053" (1.35mm); Lead Spacing: -; Lead Style: -; ComponentLink1URL: http://www.murata.com/~/media/webrenewal/support/library/catalog/products/capacitor/mlcc/c02e.pdf; ComponentLink1Description: http://www.murata.com/~/media/webrenewal/support/library/catalog/products/capacitor/mlcc/c02e.pdf; Manufacturer: Murata Electronics North America; Manufacturer Part Number: GRM21BR71A106KE51K; Supplier 2: Mouser; Supplier Part Number 2: 81-GRM155R71H221KA01; Stock: 0; Pricing: 1=0.1, 10=0.047, 50=0.047, 100=0.02, 1000=0.012, 10000=0.008 (USD); Mount: Surface Mount; Case/Package: 0402; Number of Pins: 2; Case Code (Metric): 1005; Case Code (Imperial): 0402; Min Operating Temperature: -55°C; Max Operating Temperature: 125°C; Package Quantity: 1; Voltage Rating (DC): 50V; Dielectric: X7R; Termination: SMD/SMT; Voltage: 50V; Length: 1mm; Height: 0.5mm; Width: 0.02inch; Thickness: 0.022inch; Depth: 0.5mm; Radiation Hardening: No; Lead Free: Lead Free; REACH SVHC: No SVHC; ComponentLink2URL: https://datasheet.ciiva.com/18101/getdatasheetpartid-37830-18101059.pdf; ComponentLink2Description: https://datasheet.ciiva.com/18101/getdatasheetpartid-37830-18101059.pdf; ComponentLink3URL: https://datasheet.ciiva.com/19476/1856450-19476323.pdf; ComponentLink3Description: https://datasheet.ciiva.com/19476/1856450-19476323.pdf; ComponentLink4URL: https://datasheet.ciiva.com/29199/454266-da-01-en-vs-kondensator-0402-29199758.pdf; ComponentLink4Description: https://datasheet.ciiva.com/29199/454266-da-01-en-vs-kondensator-0402-29199758.pdf; ComponentLink5URL: https://datasheet.ciiva.com/129/partnumbering-e-01-129858.pdf; ComponentLink5Description: https://datasheet.ciiva.com/129/partnumbering-e-01-129858.pdf; ComponentLink6URL: https://datasheet.ciiva.com/129/partnumbering-e-01-129859.pdf; ComponentLink6Description: https://datasheet.ciiva.com/129/partnumbering-e-01-129859.pdf; ComponentLink7URL: https://datasheet.ciiva.com/129/partnumbering-e-01-129860.pdf; ComponentLink7Description: https://datasheet.ciiva.com/129/partnumbering-e-01-129860.pdf; ComponentLink8URL: https://datasheet.ciiva.com/22698/608985-22698422.pdf; ComponentLink8Description: https://datasheet.ciiva.com/22698/608985-22698422.pdf; ComponentLink9URL: https://datasheet.ciiva.com/11605/product-11605114.pdf; ComponentLink9Description: https://datasheet.ciiva.com/11605/product-11605114.pdf; ComponentLink10URL: https://datasheet.ciiva.com/7937/608985-7937627.pdf; ComponentLink10Description: https://datasheet.ciiva.com/7937/608985-7937627.pdf; ComponentLink11URL: https://datasheet.ciiva.com/2989/product-2989405.pdf; ComponentLink11Description: https://datasheet.ciiva.com/2989/product-2989405.pdf
footprint C0805-ss
pins: 1, 2

## GRM32DR71E106KA12K
designator C?, comment 10µF
Multilayer Ceramic Capacitors MLCC - SMD/SMT 10uF 25Volts 10%; Manufacturer: Murata; Manufacturer Part Number: GRM32DR71E106KA12K; Voltage Rating: 25V; Dielectric: X7R; Supplier 1: Digi-Key; Supplier Part Number 1: 490-6532-1-ND; RoHS: Yes; Stock: 1092; Pricing: 1 = 0.79000, 10 = 0.58400, 100 = 0.40010, 500 = 0.31676, 1000 = 0.26675 (USD); Mount: Surface Mount; Case/Package: 1210; Case Code (Metric): 3225; Case Code (Imperial): 1210; Min Operating Temperature: -55°C; Max Operating Temperature: 125°C; Capacitance: 10uF; Voltage Rating (DC): 25V; Tolerance: 10%; Packaging: Tape and Reel; Package Quantity: 4000; Termination: SMD/SMT; Length: 3.2mm; Height: 2mm; Width: 0.098inch; Thickness: 0.087inch; Depth: 2.5mm; Radiation Hardening: No; Lead Free: Lead Free; ComponentLink1URL: https://www.murata.com/~/media/webrenewal/support/library/catalog/products/capacitor/mlcc/c02e.ashx?la=en-us; ComponentLink1Description: https://www.murata.com/~/media/webrenewal/support/library/catalog/products/capacitor/mlcc/c02e.ashx?la=en-us; Supplier 2: Digi-Key; Supplier Part Number 2: 445-5143-1-ND; Number of Pins: 2; Weight: 7.1E-05oz; Dielectric Material: Ceramic; Composition: Ceramic; ComponentLink2URL: http://www.mouser.com/ds/2/400/lcc_commercial_general_en-837201.pdf; ComponentLink2Description: http://www.mouser.com/ds/2/400/lcc_commercial_general_en-837201.pdf; ComponentLink3URL: https://product.tdk.com/en/products/common/pdf/mlcc_partnumber_description.pdf; ComponentLink3Description: https://product.tdk.com/en/products/common/pdf/mlcc_partnumber_description.pdf; ComponentLink4URL: https://product.tdk.com/info/en/catalog/spec/mlccspec_commercial_general_midvoltage_en.pdf; ComponentLink4Description: https://product.tdk.com/info/en/catalog/spec/mlccspec_commercial_general_midvoltage_en.pdf
footprint C1210 (Chip Capacitor, 2-Leads, Body 3.20x2.50mm, IPC Medium Density)
pins: 1, 2

## GRM32ER61E226KE15L
designator C?, comment 22uF, 25V
CAP CER 22UF 25V X5R 1210; Manufacturer: Murata; Manufacturer Part Number: GRM32ER61E226KE15L; Material: Ceramic; Tolerance: 10%; Supplier 1: Digi-Key; Supplier Part Number 1: 490-3889-1-ND; RoHS: Yes; Stock: 560000; Pricing: 1 = 1.70000, 10 = 1.37800, 100 = 1.05250, 500 = 0.80188 (USD); Mount: Surface Mount; Case/Package: 1210; Number of Pins: 2; Case Code (Metric): 3225; Case Code (Imperial): 1210; Min Operating Temperature: -55°C; Max Operating Temperature: 85°C; Capacitance: 22uF; Dielectric: X5R; Package Quantity: 1000; Voltage Rating: 25V; Packaging: Tape and Reel; Voltage Rating (DC): 25V; Termination: SMD/SMT; Voltage: 25V; Length: 3.2mm; Height: 2.5mm; Width: 2.5mm; Thickness: 0.106inch; Depth: 2.5mm; Radiation Hardening: No; REACH SVHC: No SVHC; Lead Free: Lead Free; ComponentLink1URL: http://uk.rs-online.com/webdocs/1423/0900766b81423c33.pdf; ComponentLink1Description: http://uk.rs-online.com/webdocs/1423/0900766b81423c33.pdf; ComponentLink2URL: https://www.murata.com/~/media/webrenewal/support/library/catalog/products/capacitor/mlcc/c02e.ashx?la=en-us; ComponentLink2Description: https://www.murata.com/~/media/webrenewal/support/library/catalog/products/capacitor/mlcc/c02e.ashx?la=en-us; ComponentLink3URL: http://psearch.murata.com/capacitor/product/GRM32ER61E226KE15%23.pdf; ComponentLink3Description: http://psearch.murata.com/capacitor/product/GRM32ER61E226KE15%23.pdf; ComponentLink4URL: http://psearch.en.murata.com/capacitor/product/GRM32ER61E226KE15%23.pdf; ComponentLink4Description: http://psearch.en.murata.com/capacitor/product/GRM32ER61E226KE15%23.pdf; ComponentLink5URL: http://search.murata.co.jp/Ceramy/image/img/w_hinm/L0006E.pdf; ComponentLink5Description: http://search.murata.co.jp/Ceramy/image/img/w_hinm/L0006E.pdf; ComponentLink6URL: http://www.farnell.com/datasheets/608985.pdf; ComponentLink6Description: http://www.farnell.com/datasheets/608985.pdf; ComponentLink7URL: http://www.farnell.com/datasheets/1951998.pdf; ComponentLink7Description: http://www.farnell.com/datasheets/1951998.pdf; ComponentLink8URL: https://www.distrelec.biz/Web/Downloads/_t/ds/murata_MLCC_eng_tds.pdf?mime=application%2Fpdf; ComponentLink8Description: https://www.distrelec.biz/Web/Downloads/_t/ds/murata_MLCC_eng_tds.pdf?mime=application%2Fpdf; ComponentLink9URL: http://components.arrow.com/part/dataview/43432935S8888103N2606; ComponentLink9Description: http://components.arrow.com/part/dataview/43432935S8888103N2606
footprint C1210 (Chip Capacitor, 2-Leads, Body 3.20x2.50mm, IPC Medium Density)
pins: 1, 2

## GRM033C80J104KE15D
designator C?, comment 100nF
CAP CER 0.1UF 6.3V X6S 0201; Manufacturer 1: Murata Electronics North America; Manufacturer Part Number 1: GRM033C80J104KE15D; Capacitance: 0.10µF; Tolerance: ±10%; Exact Component Match: no; Supplier 1: Digi-Key; Supplier Part Number 1: 490-10390-1-ND; RoHS: RoHS Compliant; Category: Capacitors; Stock 1: 260594; Pricing 1: 1=0.09, 10=0.014, 25=0.01, 50=0.0076, 100=0.0065, 250=0.00524, 500=0.0045, 1000=0.00351, 5000=0.00293 (EUR); Packaging: Cut Tape (CT); Part Status: Active; Voltage - Rated: 6.3V; Temperature Coefficient: X6S; Operating Temperature: -55°C ~ 105°C; Features: Derating Recommended; Ratings: -; Applications: General Purpose; Failure Rate: *; Mounting Type: Surface Mount, MLCC; Package / Case: 0201 (0603 Metric); Size / Dimension: 0.024" L x 0.012" W (0.60mm x 0.30mm); Height - Seated (Max): -; Thickness (Max): 0.013" (0.33mm); Lead Spacing: -; Lead Style: -; ComponentLink1URL: http://www.murata.com/~/media/webrenewal/support/library/catalog/products/capacitor/mlcc/c02e.pdf; ComponentLink1Description: http://www.murata.com/~/media/webrenewal/support/library/catalog/products/capacitor/mlcc/c02e.pdf; Manufacturer: Murata Electronics North America; Manufacturer Part Number: GRM033C80J104KE15D
footprint C0201-ss
pins: 1, 2

## GRM033R60J225ME15D
designator C?, comment 2u2F
CAP CER 2.2UF 6.3V X5R 0201; Manufacturer 1: Murata Electronics North America; Manufacturer Part Number 1: GRM033R60J225ME15D; Capacitance: 2.2µF; Tolerance: ±20%; Exact Component Match: no; Supplier 1: Digi-Key; Supplier Part Number 1: 490-13224-1-ND; RoHS: RoHS Compliant; Category: Capacitors; Stock 1: 16305; Pricing 1: 1=0.24, 10=0.203, 50=0.1144, 100=0.1015, 250=0.07616, 500=0.06728, 1000=0.05966, 5000=0.0495 (EUR); Packaging: Cut Tape (CT); Part Status: Active; Voltage - Rated: 6.3V; Temperature Coefficient: X5R; Operating Temperature: -55°C ~ 85°C; Features: Derating Recommended; Ratings: -; Applications: General Purpose; Failure Rate: *; Mounting Type: Surface Mount, MLCC; Package / Case: 0201 (0603 Metric); Size / Dimension: 0.024" L x 0.012" W (0.60mm x 0.30mm); Height - Seated (Max): -; Thickness (Max): 0.014" (0.35mm); Lead Spacing: -; Lead Style: -; ComponentLink1URL: http://www.murata.com/~/media/webrenewal/support/library/catalog/products/capacitor/mlcc/c02e.pdf; ComponentLink1Description: http://www.murata.com/~/media/webrenewal/support/library/catalog/products/capacitor/mlcc/c02e.pdf; Manufacturer: Murata Electronics North America; Manufacturer Part Number: GRM033R60J225ME15D
footprint C0201-RF
pins: 1, 2

## GRM033R61C333KE84D
designator C?, comment 33nF
CAP CER 0.033UF 16V X5R 0201; Manufacturer: Murata Electronics North America; Manufacturer Part Number: GRM033R61C333KE84D; Tolerance: ±10%; Notification: Current market demand for these product types have resulted in fluctuating and extending lead times. Lead times may differ.; Supplier 1: Digi-Key; Supplier Part Number 1: 490-7226-1-ND; RoHS: RoHS Compliant; Category: Capacitors; Stock: 0; Pricing: 1=0.08, 10=0.028, 100=0.0125, 500=0.00892, 1000=0.00701, 2500=0.00637, 5000=0.00586 (EUR); Packaging: Cut Tape (CT); Part Status: Active; Voltage - Rated: 16V; Temperature Coefficient: X5R; Operating Temperature: -55°C ~ 85°C; Features: -; Ratings: -; Applications: General Purpose; Mounting Type: Surface Mount, MLCC; Package / Case: 0201 (0603 Metric); Size / Dimension: 0.024" L x 0.012" W (0.60mm x 0.30mm); Height - Seated (Max): -; Thickness (Max): 0.013" (0.33mm); Lead Spacing: -; Lead Style: -; ComponentLink1URL: http://search.murata.co.jp/Ceramy/image/img/A01X/G101/ENG/GRM033R61C333KE84-01.pdf; ComponentLink1Description: http://search.murata.co.jp/Ceramy/image/img/A01X/G101/ENG/GRM033R61C333KE84-01.pdf
footprint C0201-RF
pins: 1, 2

## GRM033R61E103KA12D
designator C?, comment 10nF
CAP CER 10000PF 10V X7R 0201; Manufacturer 1: Murata Electronics North America; Manufacturer Part Number 1: GRM033R71A103KA01D; Tolerance: ±10%; Exact Component Match: no; Supplier 1: Digi-Key; Supplier Part Number 1: 490-3194-1-ND; RoHS: RoHS Compliant; Category: Capacitors; Stock 1: 4876651; Pricing 1: 1=0.09, 10=0.017, 50=0.0096, 100=0.0081, 250=0.00664, 500=0.00568, 1000=0.00443, 5000=0.00369 (EUR); Packaging: Cut Tape (CT); Part Status: Active; Capacitance: 10000pF; Voltage - Rated: 10V; Temperature Coefficient: X7R; Operating Temperature: -55°C ~ 125°C; Features: -; Ratings: -; Applications: General Purpose; Failure Rate: *; Mounting Type: Surface Mount, MLCC; Package / Case: 0201 (0603 Metric); Size / Dimension: 0.024" L x 0.012" W (0.60mm x 0.30mm); Height - Seated (Max): -; Thickness (Max): 0.013" (0.33mm); Lead Spacing: -; Lead Style: -; ComponentLink1URL: http://www.murata.com/~/media/webrenewal/support/library/catalog/products/capacitor/mlcc/c02e.pdf; ComponentLink1Description: http://www.murata.com/~/media/webrenewal/support/library/catalog/products/capacitor/mlcc/c02e.pdf; Manufacturer: Murata Electronics North America; Manufacturer Part Number: GRM033R71A103KA01D; Supplier 2: Digi-Key; Supplier Part Number 2: 490-6072-1-ND; Stock: 28598; Pricing: 1=0.16, 10=0.11, 100=0.0559, 500=0.03826, 1000=0.03384, 2500=0.03237, 5000=0.02943 (EUR); ComponentLink2URL: http://search.murata.co.jp/Ceramy/image/img/A01X/G101/ENG/GJM1555C1H110GB01-01.pdf; ComponentLink2Description: http://search.murata.co.jp/Ceramy/image/img/A01X/G101/ENG/GJM1555C1H110GB01-01.pdf
footprint C0201-ss
pins: 1, 2

## GRM033R71C101KA01D
designator C?, comment 100pF
CAP CER 100PF 16V X7R 0201; Manufacturer 1: Murata Electronics North America; Manufacturer Part Number 1: GRM033R71C101KA01D; Tolerance: ±10%; Exact Component Match: no; Supplier 1: Digi-Key; Supplier Part Number 1: 490-6146-1-ND; RoHS: RoHS Compliant; Category: Capacitors; Stock 1: 183863; Pricing 1: 1=0.09, 10=0.011, 50=0.006, 100=0.005, 250=0.00408, 500=0.00348, 1000=0.0027, 5000=0.00225 (EUR); Packaging: Cut Tape (CT); Part Status: Active; Capacitance: 100pF; Voltage - Rated: 16V; Temperature Coefficient: X7R; Operating Temperature: -55°C ~ 125°C; Features: -; Ratings: -; Applications: General Purpose; Failure Rate: *; Mounting Type: Surface Mount, MLCC; Package / Case: 0201 (0603 Metric); Size / Dimension: 0.024" L x 0.012" W (0.60mm x 0.30mm); Height - Seated (Max): -; Thickness (Max): 0.013" (0.33mm); Lead Spacing: -; Lead Style: -; ComponentLink1URL: http://www.murata.com/~/media/webrenewal/support/library/catalog/products/capacitor/mlcc/c02e.pdf; ComponentLink1Description: http://www.murata.com/~/media/webrenewal/support/library/catalog/products/capacitor/mlcc/c02e.pdf; Manufacturer: Murata Electronics North America; Manufacturer Part Number: GRM033R71C101KA01D
footprint C0201-ss
pins: 1, 2

## GRM033R71C102KA01D
designator C?, comment 1nF
CAP CER 1000PF 16V X7R 0201; Manufacturer 1: Murata Electronics North America; Manufacturer Part Number 1: GRM033R71C102KA01D; Tolerance: ±10%; Exact Component Match: no; Supplier 1: Digi-Key; Supplier Part Number 1: 490-6147-1-ND; RoHS: RoHS Compliant; Category: Capacitors; Stock 1: 1961017; Pricing 1: 1=0.09, 10=0.021, 50=0.0108, 100=0.0091, 250=0.00748, 500=0.0064, 1000=0.00498, 5000=0.00415 (EUR); Packaging: Cut Tape (CT); Part Status: Active; Capacitance: 1000pF; Voltage - Rated: 16V; Temperature Coefficient: X7R; Operating Temperature: -55°C ~ 125°C; Features: -; Ratings: -; Applications: General Purpose; Failure Rate: *; Mounting Type: Surface Mount, MLCC; Package / Case: 0201 (0603 Metric); Size / Dimension: 0.024" L x 0.012" W (0.60mm x 0.30mm); Height - Seated (Max): -; Thickness (Max): 0.013" (0.33mm); Lead Spacing: -; Lead Style: -; ComponentLink1URL: http://www.murata.com/~/media/webrenewal/support/library/catalog/products/capacitor/mlcc/c02e.pdf; ComponentLink1Description: http://www.murata.com/~/media/webrenewal/support/library/catalog/products/capacitor/mlcc/c02e.pdf; Manufacturer: Murata Electronics North America; Manufacturer Part Number: GRM033R71C102KA01D
footprint C0201-ss
pins: 1, 2

## GRM033R71C221KA01D
designator C?, comment 220 pF
CAP CER 220pF 16V 10% 0201; Manufacturer: Murata; Manufacturer Part Number: GRM033R71C221KA01D; Dielectric: X7R; Supplier 1: Digi-Key; Supplier Part Number 1: 490-6149-6-ND; Stock: 7630; Pricing: 1=0.1, 10=0.033, 100=0.0148, 500=0.01058, 1000=0.00832, 2500=0.00756, 5000=0.00696 (USD); Mount: Surface Mount; Case/Package: 0201; Case Code (Metric): 0603; Case Code (Imperial): 0201; Min Operating Temperature: -55°C; Max Operating Temperature: 125°C; Capacitance: 220pF; Package Quantity: 15000; Voltage Rating: 16V; Tolerance: 10%; Packaging: Tape and Reel; Voltage Rating (DC): 16V; Termination: SMD/SMT; Length: 0.6mm; Height: 0.3mm; Width: 0.012inch; Depth: 0.3mm; Thickness: 0.013inch; Radiation Hardening: No; Lead Free: Lead Free; ComponentLink1URL: https://datasheet.ciiva.com/6263/product-6263584.pdf; ComponentLink1Description: https://datasheet.ciiva.com/6263/product-6263584.pdf; ComponentLink2URL: https://datasheet.ciiva.com/26843/getdatasheetpartid-477220-26843745.pdf; ComponentLink2Description: https://datasheet.ciiva.com/26843/getdatasheetpartid-477220-26843745.pdf; ComponentLink3URL: https://datasheet.ciiva.com/6263/partnumbering-e-01-6263582.pdf; ComponentLink3Description: https://datasheet.ciiva.com/6263/partnumbering-e-01-6263582.pdf; ComponentLink4URL: https://datasheet.ciiva.com/6263/partnumbering-e-01-6263583.pdf; ComponentLink4Description: https://datasheet.ciiva.com/6263/partnumbering-e-01-6263583.pdf
footprint C0201-RF
pins: 1, 2

## GRM155C80J106ME11D
designator C?, comment 10uF
CAP CER 10µF 6.3V X6S 0402; Manufacturer: Murata; Manufacturer Part Number: GRM155C80J106ME11D; Tolerance: 20%; Supplier 1: Digi-Key; Supplier Part Number 1: 490-13233-6-ND; Stock: 0; Pricing: 1=0.27, 10=0.182, 100=0.0923, 500=0.06318, 1000=0.05589, 2500=0.05346, 5000=0.0486 (USD); Mount: Surface Mount; Case/Package: 0402; Case Code (Metric): 1005; Case Code (Imperial): 0402; Min Operating Temperature: -55°C; Max Operating Temperature: 105°C; Packaging: Tape and Reel; Capacitance: 10uF; Voltage Rating: 6.3V; Voltage Rating (DC): 6.3V; Dielectric: X6S; Length: 0.039inch; Width: 0.02inch; Thickness: 0.028inch
footprint C0402-RF
pins: 1, 2

## GRM155R6YA224KE01D
designator C?, comment 220nF
CAP CER 0.22UF 35V X5R 0402; Manufacturer: Murata Electronics North America; Manufacturer Part Number: GRM155R6YA224KE01D; Tolerance: ±10%; Supplier 1: Digi-Key; Supplier Part Number 1: 490-10460-1-ND; RoHS: RoHS Compliant; Category: Capacitors; Stock: 125509; Pricing: 1=0.08, 10=0.044, 100=0.0195, 500=0.01392, 1000=0.01094, 2500=0.00994, 5000=0.00915 (EUR); Packaging: Cut Tape (CT); Part Status: Active; Voltage - Rated: 35V; Temperature Coefficient: X5R; Operating Temperature: -55°C ~ 85°C; Features: Derating Recommended; Ratings: -; Applications: General Purpose; Mounting Type: Surface Mount, MLCC; Package / Case: 0402 (1005 Metric); Size / Dimension: 0.039" L x 0.020" W (1.00mm x 0.50mm); Height - Seated (Max): -; Thickness (Max): 0.022" (0.55mm); Lead Spacing: -; Lead Style: -; ComponentLink1URL: http://search.murata.co.jp/Ceramy/image/img/A01X/G101/ENG/GRM155R6YA224KE01-01.pdf; ComponentLink1Description: http://search.murata.co.jp/Ceramy/image/img/A01X/G101/ENG/GRM155R6YA224KE01-01.pdf
footprint C0402-RF
pins: 1, 2